# Altium footprint library PCB - LEADLESS - LFCSP - AD LFCSP-8 3X3 CP-8-11.PcbLib: 1 footprints
Each footprint in its own frame and in the unit in brackets; x right, y up, seen from the top. Pads: shape width x height; smd on the part's side, far side on the other; paste and mask are expansions set on the pad; w line width, h text height; cw(c..) or ccw(c..) is an arc to the next point about the centre after c.
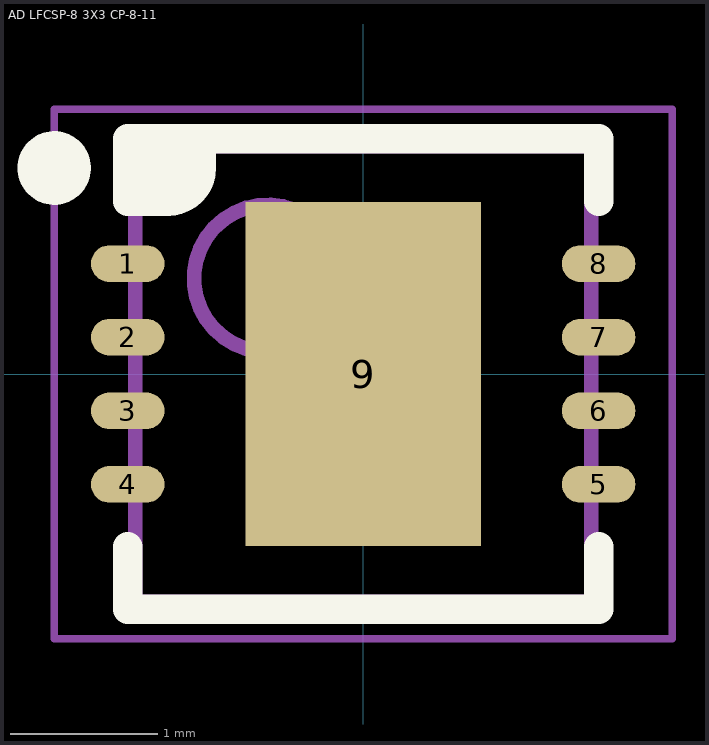
[diagram p0: the footprint, top view; thin cyan lines are the x and y axes]

## AD LFCSP-8 3X3 CP-8-11 [mm] "QFN, 8-Leads, Body 3.00x3.00mm, Pitch 0.50mm, Thermal Pad 1.60x2.34mm, IPC Medium Density"
height 0.8
pads (9):
  oval 0.5x0.25 smd: 1(-1.6,0.75) 2(-1.6,0.25) 3(-1.6,-0.25) 4(-1.6,-0.75) 5(1.6,-0.75) 6(1.6,-0.25) 7(1.6,0.25) 8(1.6,0.75)
  rect 1.6x2.34 smd: 9(0,0)
Top Overlay:
  circle w0.25: c-2.1,1.4 r0.125
  region: -1.6,1.6 -1.2,1.6 -1.1,1.5 -1.1,1.4 -1.325,1.175 -1.6,1.175
  lines w0.2: -1.6,-1.175 -1.6,-1.6 1.6,-1.6 1.6,-1.175 ; -1.2,1.6 cw(c-1.2,1.5) -1.1,1.5 -1.1,1.4 cw(c-1.325,1.4) -1.325,1.175 -1.6,1.175 -1.6,1.6 1.6,1.6 1.6,1.175
Top Assembly:
  circle w0.1: c-0.65,0.65 r0.5
  lines w0.1: -1.55,-1.55 -1.55,1.55 1.55,1.55 1.55,-1.55 -1.55,-1.55
Top Courtyard:
  lines w0.05: -2.1,-1.8 -2.1,1.8 2.1,1.8 2.1,-1.8 -2.1,-1.8
  lines w0.1: -0.5,0 0.5,0 ; 0,-0.5 0,0.5
3D body "AD LFCSP-8 3X3 CP-8-11.step": height 0.8, standoff 0, extent -1.57,-1.55 1.57,1.55